# Altium schematic symbol library SymbolLib.SchLib: 21 symbols
Pins are listed as number, name and electrical type; pins without a type are passive.

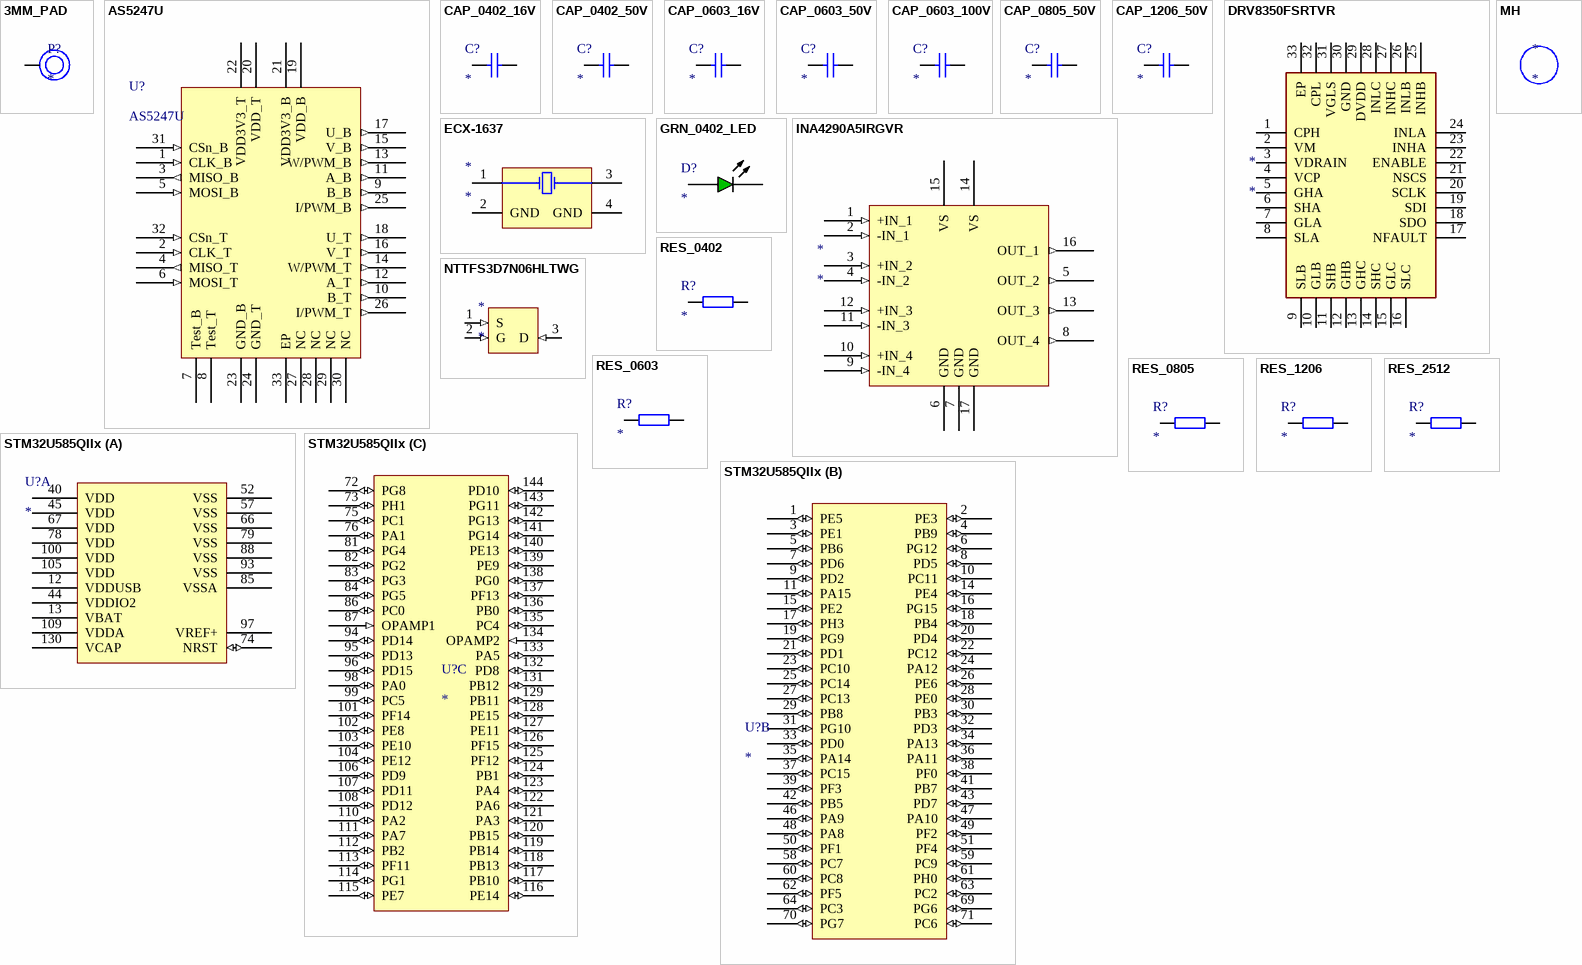
[diagram p0: symbols 3MM_PAD to STM32U585QIIx]

## 3MM_PAD
designator P?
footprint PAD_HOLE
pins: 1

## AS5247U
designator U?
ams AS5247U Magnetic Rotary Position Sensor; ComponentLink1Description: New link; ComponentLink1URL: *; ComponentLink2Description: New link 1; ComponentLink2URL: *
footprint AS5247U
pins: 1 CLK_B (in), 2 CLK_T (in), 3 MISO_B (out), 4 MISO_T (out), 5 MOSI_B (in), 6 MOSI_T (in), 7 Test_B (power) "Test pin (Connect to Ground)", 8 Test_T (power) "Test pin (Connect to Ground)", 9 B_B (out), 10 B_T (out), 11 A_B (out), 12 A_T (out), 13 W/PWM_B (out), 14 W/PWM_T (out), 15 V_B (out), 16 V_T (out), 17 U_B (out), 18 U_T (out), 19 VDD_B (power) "5V", 20 VDD_T (power) "5V", 21 VDD3V3_B (power), 22 VDD3V3_T (power), 23 GND_B (power), 24 GND_T (power), 25 I/PWM_B (out), 26 I/PWM_T (out), 27 NC, 28 NC, 29 NC, 30 NC, 31 CSn_B (in), 32 CSn_T (in), 33 EP

## CAP_0402_16V
designator C?
Capacitor; Manufacturer_Name: Samsung Electro-Mechanics; Manufacturer_Part_Number: CL05B104KO5NNNC; Datasheet Link: https://datasheet.datasheetarchive.com/originals/distributors/Datasheets-DGA10/2408147.pdf; Height: 0.55mm; Mouser Part Number: 187-CL05B104KO5NNNC; Mouser Price/Stock: https://www.mouser.co.uk/ProductDetail/Samsung-Electro-Mechanics/CL05B104KO5NNNC?qs=hqM3L16%252BxlfT2SKOuAUq6Q%3D%3D; Arrow Part Number: CL05B104KO5NNNC; Arrow Price/Stock: https://www.arrow.com/en/products/cl05b104ko5nnnc/samsung-electro-mechanics
footprint CAPC1005X55N
pins: 1, 2

## CAP_0402_50V
designator C?
Capacitor; Manufacturer_Name: Samsung Electro-Mechanics; Manufacturer_Part_Number: CL05B104KO5NNNC; Datasheet Link: https://datasheet.datasheetarchive.com/originals/distributors/Datasheets-DGA10/2408147.pdf; Height: 0.55mm; Mouser Part Number: 187-CL05B104KO5NNNC; Mouser Price/Stock: https://www.mouser.co.uk/ProductDetail/Samsung-Electro-Mechanics/CL05B104KO5NNNC?qs=hqM3L16%252BxlfT2SKOuAUq6Q%3D%3D; Arrow Part Number: CL05B104KO5NNNC; Arrow Price/Stock: https://www.arrow.com/en/products/cl05b104ko5nnnc/samsung-electro-mechanics
footprint CAPC1005X55N
pins: 1, 2

## CAP_0603_16V
designator C?
Capacitor; Manufacturer_Name: Samsung Electro-Mechanics; Manufacturer_Part_Number: CL05B104KO5NNNC; Datasheet Link: https://datasheet.datasheetarchive.com/originals/distributors/Datasheets-DGA10/2408147.pdf; Height: 0.55mm; Mouser Part Number: 187-CL05B104KO5NNNC; Mouser Price/Stock: https://www.mouser.co.uk/ProductDetail/Samsung-Electro-Mechanics/CL05B104KO5NNNC?qs=hqM3L16%252BxlfT2SKOuAUq6Q%3D%3D; Arrow Part Number: CL05B104KO5NNNC; Arrow Price/Stock: https://www.arrow.com/en/products/cl05b104ko5nnnc/samsung-electro-mechanics
footprint CAPC1608X90N
pins: 1, 2

## CAP_0603_50V
designator C?
Capacitor; Manufacturer_Name: Samsung Electro-Mechanics; Manufacturer_Part_Number: CL05B104KO5NNNC; Datasheet Link: https://datasheet.datasheetarchive.com/originals/distributors/Datasheets-DGA10/2408147.pdf; Height: 0.55mm; Mouser Part Number: 187-CL05B104KO5NNNC; Mouser Price/Stock: https://www.mouser.co.uk/ProductDetail/Samsung-Electro-Mechanics/CL05B104KO5NNNC?qs=hqM3L16%252BxlfT2SKOuAUq6Q%3D%3D; Arrow Part Number: CL05B104KO5NNNC; Arrow Price/Stock: https://www.arrow.com/en/products/cl05b104ko5nnnc/samsung-electro-mechanics
footprint CAPC1608X90N
pins: 1, 2

## CAP_0603_100V
designator C?
Capacitor; Manufacturer_Name: Samsung Electro-Mechanics; Manufacturer_Part_Number: CL05B104KO5NNNC; Datasheet Link: https://datasheet.datasheetarchive.com/originals/distributors/Datasheets-DGA10/2408147.pdf; Height: 0.55mm; Mouser Part Number: 187-CL05B104KO5NNNC; Mouser Price/Stock: https://www.mouser.co.uk/ProductDetail/Samsung-Electro-Mechanics/CL05B104KO5NNNC?qs=hqM3L16%252BxlfT2SKOuAUq6Q%3D%3D; Arrow Part Number: CL05B104KO5NNNC; Arrow Price/Stock: https://www.arrow.com/en/products/cl05b104ko5nnnc/samsung-electro-mechanics
footprint CAPC1608X90N
pins: 1, 2

## CAP_0805_50V
designator C?
Capacitor; Manufacturer_Name: Samsung Electro-Mechanics; Manufacturer_Part_Number: CL05B104KO5NNNC; Datasheet Link: https://datasheet.datasheetarchive.com/originals/distributors/Datasheets-DGA10/2408147.pdf; Height: 0.55mm; Mouser Part Number: 187-CL05B104KO5NNNC; Mouser Price/Stock: https://www.mouser.co.uk/ProductDetail/Samsung-Electro-Mechanics/CL05B104KO5NNNC?qs=hqM3L16%252BxlfT2SKOuAUq6Q%3D%3D; Arrow Part Number: CL05B104KO5NNNC; Arrow Price/Stock: https://www.arrow.com/en/products/cl05b104ko5nnnc/samsung-electro-mechanics
footprint CAPC1608X90N
pins: 1, 2

## CAP_1206_50V
designator C?
Capacitor; Manufacturer_Name: Samsung Electro-Mechanics; Manufacturer_Part_Number: CL05B104KO5NNNC; Datasheet Link: https://datasheet.datasheetarchive.com/originals/distributors/Datasheets-DGA10/2408147.pdf; Height: 0.55mm; Mouser Part Number: 187-CL05B104KO5NNNC; Mouser Price/Stock: https://www.mouser.co.uk/ProductDetail/Samsung-Electro-Mechanics/CL05B104KO5NNNC?qs=hqM3L16%252BxlfT2SKOuAUq6Q%3D%3D; Arrow Part Number: CL05B104KO5NNNC; Arrow Price/Stock: https://www.arrow.com/en/products/cl05b104ko5nnnc/samsung-electro-mechanics
footprint CAPC3216X180N
pins: 1, 2

## DRV8350FSRTVR
designator *
footprint WQFN-N32-THM
pins: 1 CPH, 2 VM, 3 VDRAIN, 4 VCP, 5 GHA, 6 SHA, 7 GLA, 8 SLA, 9 SLB, 10 GLB, 11 SHB, 12 GHB, 13 GHC, 14 SHC, 15 GLC, 16 SLC, 17 NFAULT, 18 SDO, 19 SDI, 20 SCLK, 21 NSCS, 22 ENABLE, 23 INHA, 24 INLA, 25 INHB, 26 INLB, 27 INHC, 28 INLC, 29 DVDD, 30 GND, 31 VGLS, 32 CPL, 33 EP

## ECX-1637
designator *
footprint ECX-1637
pins: 1 X1, 2 GND (power), 3 X2, 4 GND (power)

## GRN_0402_LED
designator D?
footprint 150040GS73220
pins: 1 A, 2 K

## INA4290A5IRGVR
designator *
footprint S-PVQFN-N16
pins: 1 +IN_1 (in), 2 -IN_1 (in), 3 +IN_2 (in), 4 -IN_2 (in), 5 OUT_2 (out), 6 GND (power), 7 GND (power), 8 OUT_4 (out), 9 -IN_4 (in), 10 +IN_4 (in), 11 -IN_3 (in), 12 +IN_3 (in), 13 OUT_3 (out), 14 VS (power), 15 VS (power), 16 OUT_1 (out), 17 GND (power)

## MH
designator *
footprint MH

## NTTFS3D7N06HLTWG
designator *
footprint PQFN-8
pins: 1 S (in), 2 G (in), 3 D (in)

## RES_0402
designator R?
footprint RESC1005X40N
pins: 1, 2

## RES_0603
designator R?
footprint RESC1608X55N
pins: 1, 2

## RES_0805
designator R?
footprint RESC2013X58N
pins: 1, 2

## RES_1206
designator R?
footprint RESC3216X80N
pins: 1, 2

## RES_2512
designator R?
footprint RESC6432X65N
pins: 1, 2

## STM32U585QIIx
designator U?
footprint UFBGA132
part A pins: 12 VDDUSB (power), 13 VBAT (power), 40 VDD (power), 44 VDDIO2 (power), 45 VDD (power), 52 VSS (power), 57 VSS (power), 66 VSS (power), 67 VDD (power), 74 NRST (io), 78 VDD (power), 79 VSS (power), 85 VSSA (power), 88 VSS (power), 93 VSS (power), 97 VREF+ (power), 100 VDD (power), 105 VDD (power), 109 VDDA (power), 130 VCAP (power)
part B pins: 1 PE5 (io), 2 PE3 (io), 3 PE1 (io), 4 PB9 (io), 5 PB6 (io), 6 PG12 (io), 7 PD6 (io), 8 PD5 (io), 9 PD2 (io), 10 PC11 (io), 11 PA15 (io), 14 PE4 (io), 15 PE2 (io), 16 PG15 (io), 17 PH3 (io), 18 PB4 (io), 19 PG9 (io), 20 PD4 (io), 21 PD1 (io), 22 PC12 (io), 23 PC10 (io), 24 PA12 (io), 25 PC14 (io), 26 PE6 (io), 27 PC13 (io), 28 PE0 (io), 29 PB8 (io), 30 PB3 (io), 31 PG10 (io), 32 PD3 (io), 33 PD0 (io), 34 PA13 (io), 35 PA14 (io), 36 PA11 (io), 37 PC15 (io), 38 PF0 (io), 39 PF3 (io), 41 PB7 (io), 42 PB5 (io), 43 PD7 (io), 46 PA9 (io), 47 PA10 (io), 48 PA8 (io), 49 PF2 (io), 50 PF1 (io), 51 PF4 (io), 58 PC7 (io), 59 PC9 (io), 60 PC8 (io), 61 PH0 (io), 62 PF5 (io), 63 PC2 (io), 64 PC3 (io), 69 PG6 (io), 70 PG7 (io), 71 PC6 (io)
part C pins: 72 PG8 (io), 73 PH1 (io), 75 PC1 (io), 76 PA1 (io), 81 PG4 (io), 82 PG2 (io), 83 PG3 (io), 84 PG5 (io), 86 PC0 (io), 87 OPAMP1 (in), 94 PD14 (io), 95 PD13 (io), 96 PD15 (io), 98 PA0 (io), 99 PC5 (io), 101 PF14 (io), 102 PE8 (io), 103 PE10 (io), 104 PE12 (io), 106 PD9 (io), 107 PD11 (io), 108 PD12 (io), 110 PA2 (io), 111 PA7 (io), 112 PB2 (io), 113 PF11 (io), 114 PG1 (io), 115 PE7 (io), 116 PE14 (io), 117 PB10 (io), 118 PB13 (io), 119 PB14 (io), 120 PB15 (io), 121 PA3 (io), 122 PA6 (io), 123 PA4 (io), 124 PB1 (io), 125 PF12 (io), 126 PF15 (io), 127 PE11 (io), 128 PE15 (io), 129 PB11 (io), 131 PB12 (io), 132 PD8 (io), 133 PA5 (io), 134 OPAMP2 (in), 135 PC4 (io), 136 PB0 (io), 137 PF13 (io), 138 PG0 (io), 139 PE9 (io), 140 PE13 (io), 141 PG14 (io), 142 PG13 (io), 143 PG11 (io), 144 PD10 (io)